# Altium schematic symbol library kicanka_PCB.SchLib: 2 symbols
Pins are listed as number, name and electrical type; pins without a type are passive.

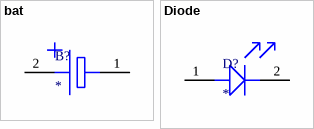
[diagram p0: symbols bat to Diode]

## bat
designator B?
footprint bat
pins: 1 (oc), 2 (oc)

## Diode
designator D?
footprint LED
pins: 1 (oc), 2 (oc)